# Altium footprint library myPcbLib1.PcbLib: 151 footprints (part 5 of 10)
Each footprint in its own frame and in the unit in brackets; x right, y up, seen from the top. Pads: shape width x height; smd on the part's side, far side on the other; paste and mask are expansions set on the pad; w line width, h text height; cw(c..) or ccw(c..) is an arc to the next point about the centre after c.
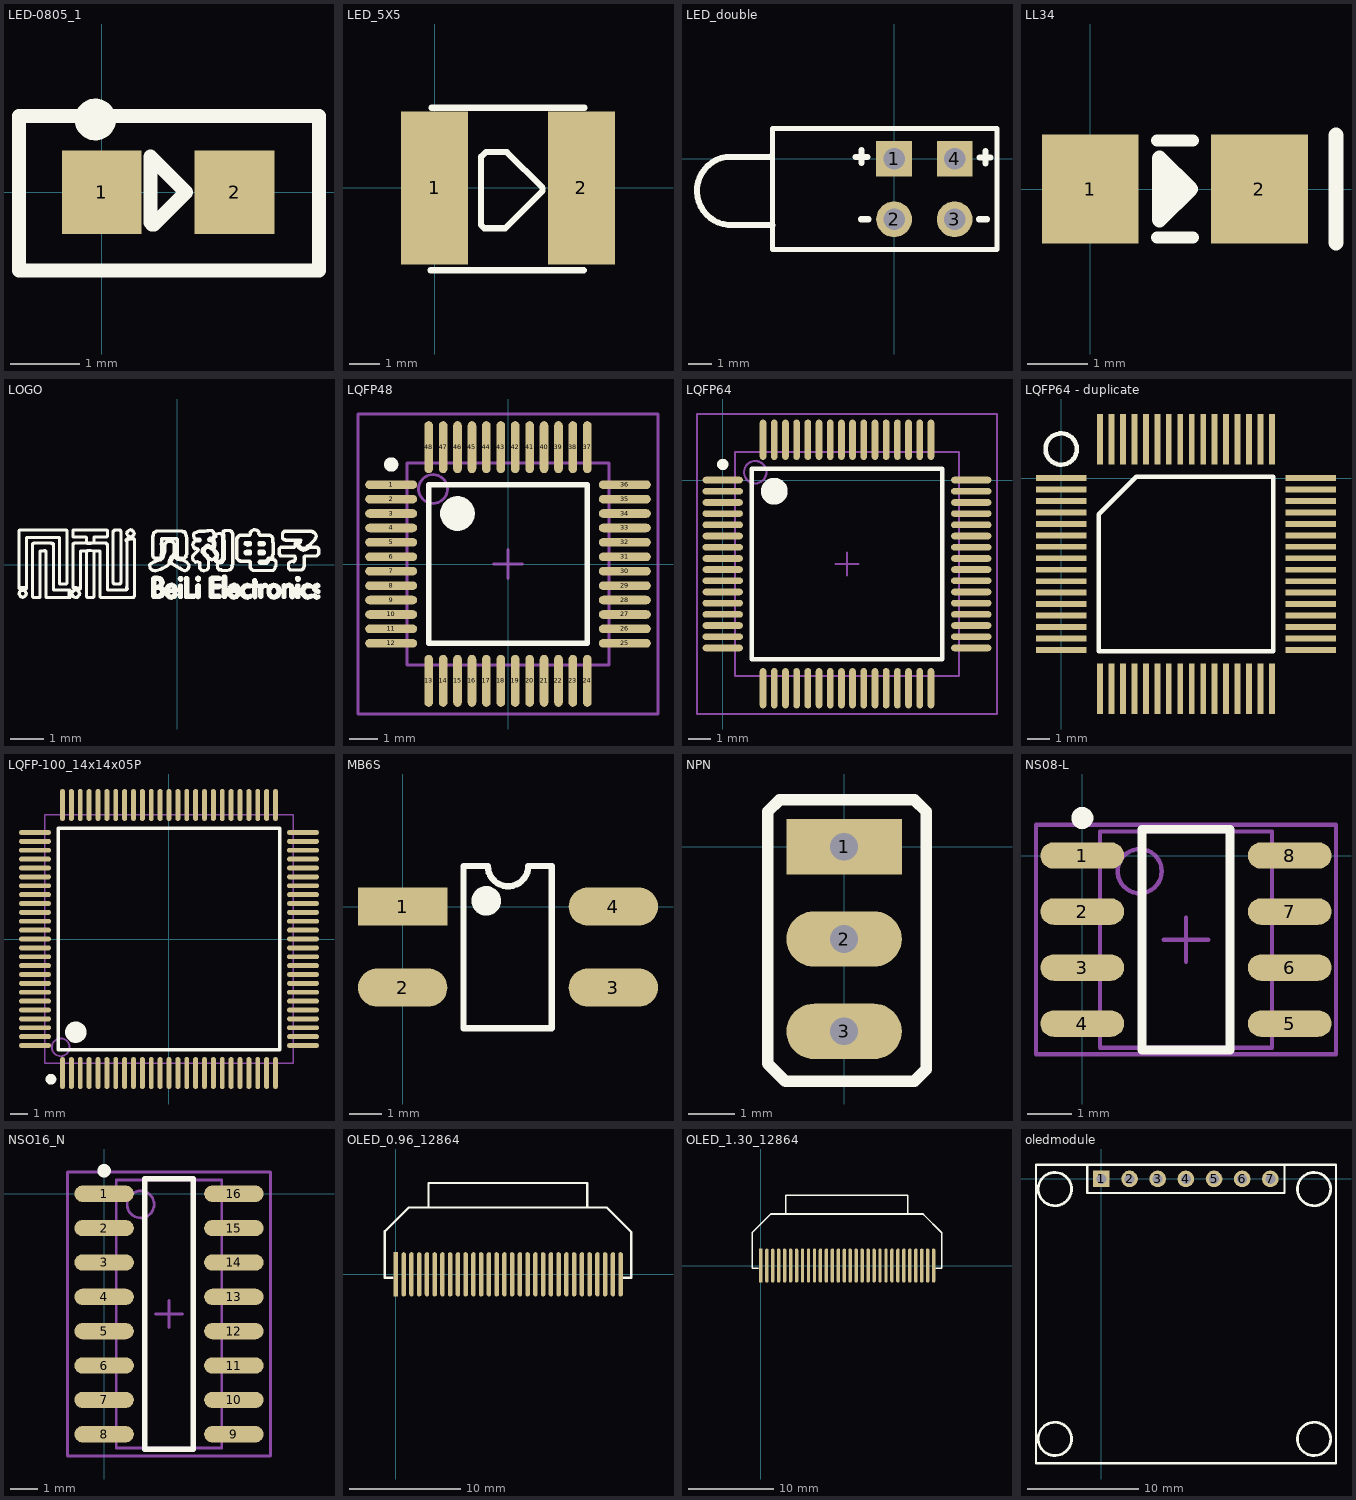
[diagram p4: the footprints below, top view; thin cyan lines are the x and y axes]

## LED-0805_1 [mm]
pads (2):
  rect 1.14x1.2 smd: 1(0,0) 2(1.9,0)
Top Overlay:
  circle w0.254: c-0.091,1.041 r0.17
  lines w0.2: -1.184,-1.118 -1.184,0.27 -1.184,1.092 3.109,1.092 3.109,-1.118 -1.184,-1.118
  lines w0.203: 0.696,-0.432 0.696,0.508 1.204,0 0.747,-0.457 0.721,-0.457 0.696,-0.432

## LED_5X5 [mm]
pads (2):
  rect 2.2x5 smd: 1(0,0) 2(4.801,0)
Top Overlay:
  lines w0.2: -0.127,-2.692 4.877,-2.692 ; -0.102,2.616 4.902,2.616 ; 1.524,-1.219 1.626,-1.321 1.753,-1.321 2.311,-1.321 3.531,-0.102 3.531,0 2.362,1.168 1.905,1.168 1.676,1.168 1.524,1.016 1.524,-1.219

## LED_double [mm]
pads (4):
  rect 1.5x1.5 hole 0.9: 1(0,0) 4(2.54,0)
  round 1.5 hole 0.9: 2(0,-2.54) 3(2.54,-2.54)
Top Overlay:
  lines w0.2: 0.635,1.27 4.318,1.27 4.318,-3.81 -5.105,-3.81 -5.105,1.27 1.905,1.27
  lines w0.254: -5.156,0.102 cw(c-5.218,0.163) -5.218,0.076 -7.061,0.076 ccw(c-6.833,-1.346) -6.965,-2.781 -5.137,-2.781 cw(c-5.137,-2.826) -5.105,-2.794 ; -1.626,0.076 -1.118,0.076 ; -1.397,-2.54 -1.067,-2.54 ; -1.372,-0.167 -1.372,0.356 ; 3.556,-2.54 3.901,-2.54 ; 3.581,0.051 4.039,0.051 ; 3.835,-0.203 3.835,0.33

## LL34 [mm]
pads (2):
  rect 1.6x1.8 smd: 1(0,0) 2(2.8,0)
Top Overlay:
  lines w0.2: 1.1,-0.8 1.7,-0.8 ; 1.1,0.8 1.7,0.8
  lines w0.254: 1.39,0.264 1.39,-0.01 1.146,-0.254 1.146,0.508 ; 4.067,-0.889 4.067,0.889 ; 1.146,0.508 1.146,-0.508 1.654,0 1.146,0.508

## LOGO [mm]
Top Overlay:
  drawing of 1860 lines, arcs and shapes, not listed

## LQFP48 [mm]
pads (48):
  oval 1.8x0.3 smd: 1(-4.05,2.75) 2(-4.05,2.25) 3(-4.05,1.75) 4(-4.05,1.25) 5(-4.05,0.75) 6(-4.05,0.25) 7(-4.05,-0.25) 8(-4.05,-0.75) 9(-4.05,-1.25) 10(-4.05,-1.75) 11(-4.05,-2.25) 12(-4.05,-2.75) 25(4.05,-2.75) 26(4.05,-2.25) 27(4.05,-1.75) 28(4.05,-1.25) 29(4.05,-0.75) 30(4.05,-0.25) 31(4.05,0.25) 32(4.05,0.75) 33(4.05,1.25) 34(4.05,1.75) 35(4.05,2.25) 36(4.05,2.75)
  oval 0.3x1.8 smd: 13(-2.75,-4.05) 14(-2.25,-4.05) 15(-1.75,-4.05) 16(-1.25,-4.05) 17(-0.75,-4.05) 18(-0.25,-4.05) 19(0.25,-4.05) 20(0.75,-4.05) 21(1.25,-4.05) 22(1.75,-4.05) 23(2.25,-4.05) 24(2.75,-4.05) 37(2.75,4.05) 38(2.25,4.05) 39(1.75,4.05) 40(1.25,4.05) 41(0.75,4.05) 42(0.25,4.05) 43(-0.25,4.05) 44(-0.75,4.05) 45(-1.25,4.05) 46(-1.75,4.05) 47(-2.25,4.05) 48(-2.75,4.05)
Top Overlay:
  circle w0.25: c-4.05,3.45 r0.125
  circle w0.6: c-1.75,1.75 r0.3
  lines w0.2: -2.75,-2.75 -2.75,2.75 2.75,2.75 2.75,-2.75 -2.75,-2.75
Mechanical 13:
  circle w0.1: c-2.6,2.6 r0.5
  lines w0.1: -3.5,-3.5 -3.5,3.5 3.5,3.5 3.5,-3.5 -3.5,-3.5
Mechanical 15:
  lines w0.1: -0.5,0 0.5,0 ; 0,-0.5 0,0.5 ; -5.2,-5.2 -5.2,5.2 5.2,5.2 5.2,-5.2 -5.2,-5.2
3D body: height 1.6, standoff 0, extent -3.5,-3.5 3.5,3.5

## LQFP64 [mm] "Thin QFP, 64-Leads, Body 10x10mm, Pitch 0.5mm, IPC Medium Density"
pads (64):
  oval 1.8x0.3 smd: 1(0,0) 2(0,-0.5) 3(0,-1) 4(0,-1.5) 5(0,-2) 6(0,-2.5) 7(0,-3) 8(0,-3.5) 9(0,-4) 10(0,-4.5) 11(0,-5) 12(0,-5.5) 13(0,-6) 14(0,-6.5) 15(0,-7) 16(0,-7.5) 33(11.1,-7.5) 34(11.1,-7) 35(11.1,-6.5) 36(11.1,-6) 37(11.1,-5.5) 38(11.1,-5) 39(11.1,-4.5) 40(11.1,-4) 41(11.1,-3.5) 42(11.1,-3) 43(11.1,-2.5) 44(11.1,-2) 45(11.1,-1.5) 46(11.1,-1) 47(11.1,-0.5) 48(11.1,0)
  oval 0.3x1.8 smd: 17(1.8,-9.3) 18(2.3,-9.3) 19(2.8,-9.3) 20(3.3,-9.3) 21(3.8,-9.3) 22(4.3,-9.3) 23(4.8,-9.3) 24(5.3,-9.3) 25(5.8,-9.3) 26(6.3,-9.3) 27(6.8,-9.3) 28(7.3,-9.3) 29(7.8,-9.3) 30(8.3,-9.3) 31(8.8,-9.3) 32(9.3,-9.3) 49(9.3,1.8) 50(8.8,1.8) 51(8.3,1.8) 52(7.8,1.8) 53(7.3,1.8) 54(6.8,1.8) 55(6.3,1.8) 56(5.8,1.8) 57(5.3,1.8) 58(4.8,1.8) 59(4.3,1.8) 60(3.8,1.8) 61(3.3,1.8) 62(2.8,1.8) 63(2.3,1.8) 64(1.8,1.8)
Top Overlay:
  circle w0.6: c2.3,-0.5 r0.3
  circle w0.25: c0,0.7 r0.125
  lines w0.2: 1.3,-8 9.8,-8 9.8,0.5 1.3,0.5 1.3,-8
Mechanical 13:
  circle w0.1: c1.45,0.35 r0.5
  lines w0.1: 0.55,-8.75 10.55,-8.75 10.55,1.25 0.55,1.25 0.55,-8.75
Mechanical 15:
  lines w0.1: 5.05,-3.75 6.05,-3.75 ; 5.55,-4.25 5.55,-3.25 ; -1.15,-10.45 12.25,-10.45 12.25,2.95 -1.15,2.95 -1.15,-10.45
3D body: height 1.6, standoff 0, extent 0.55,-8.75 10.55,1.25

## LQFP64 - duplicate [mm] "LQFP64"
pads (64):
  rect 2.2x0.254 smd: 1(0,0) 2(0,-0.5) 3(0,-1) 4(0,-1.5) 5(0,-2) 6(0,-2.5) 7(0,-3) 8(0,-3.5) 9(0,-4) 10(0,-4.5) 11(0,-5) 12(0,-5.5) 13(0,-6) 14(0,-6.5) 15(0,-7) 16(0,-7.5) 33(10.9,-7.5) 34(10.9,-7) 35(10.9,-6.5) 36(10.9,-6) 37(10.9,-5.5) 38(10.9,-5) 39(10.9,-4.5) 40(10.9,-4) 41(10.9,-3.5) 42(10.9,-3) 43(10.9,-2.5) 44(10.9,-2) 45(10.9,-1.5) 46(10.9,-1) 47(10.9,-0.5) 48(10.9,0)
  rect 0.254x2.2 smd: 17(1.7,-9.2) 18(2.2,-9.2) 19(2.7,-9.2) 20(3.2,-9.2) 21(3.7,-9.2) 22(4.2,-9.2) 23(4.7,-9.2) 24(5.2,-9.2) 25(5.7,-9.2) 26(6.2,-9.2) 27(6.7,-9.2) 28(7.2,-9.2) 29(7.7,-9.2) 30(8.2,-9.2) 31(8.7,-9.2) 32(9.2,-9.2) 49(9.2,1.7) 50(8.7,1.7) 51(8.2,1.7) 52(7.7,1.7) 53(7.2,1.7) 54(6.7,1.7) 55(6.2,1.7) 56(5.7,1.7) 57(5.2,1.7) 58(4.7,1.7) 59(4.2,1.7) 60(3.7,1.7) 61(3.2,1.7) 62(2.7,1.7) 63(2.2,1.7) 64(1.7,1.7)
Top Overlay:
  circle w0.2: c0,1.27 r0.684
  lines w0.2: 1.635,-7.565 9.265,-7.565 9.265,0.065 3.27,0.065 1.635,-1.57 1.635,-7.565

## LQFP-100_14x14x05P [mm]
pads (100):
  oval 0.28x1.8 smd mask+0.051: 1(-6,-7.55) 2(-5.5,-7.55) 3(-5,-7.55) 4(-4.5,-7.55) 5(-4,-7.55) 6(-3.5,-7.55) 7(-3,-7.55) 8(-2.5,-7.55) 9(-2,-7.55) 10(-1.5,-7.55) 11(-1,-7.55) 12(-0.5,-7.55) 13(0,-7.55) 14(0.5,-7.55) 15(1,-7.55) 16(1.5,-7.55) 17(2,-7.55) 18(2.5,-7.55) 19(3,-7.55) 20(3.5,-7.55) 21(4,-7.55) 22(4.5,-7.55) 23(5,-7.55) 24(5.5,-7.55) 25(6,-7.55) 51(6,7.55) 52(5.5,7.55) 53(5,7.55) 54(4.5,7.55) 55(4,7.55) 56(3.5,7.55) 57(3,7.55) 58(2.5,7.55) 59(2,7.55) 60(1.5,7.55) 61(1,7.55) 62(0.5,7.55) 63(0,7.55) 64(-0.5,7.55) 65(-1,7.55) 66(-1.5,7.55) 67(-2,7.55) 68(-2.5,7.55) 69(-3,7.55) 70(-3.5,7.55) 71(-4,7.55) 72(-4.5,7.55) 73(-5,7.55) 74(-5.5,7.55) 75(-6,7.55)
  oval 1.8x0.28 smd mask+0.051: 26(7.55,-6) 27(7.55,-5.5) 28(7.55,-5) 29(7.55,-4.5) 30(7.55,-4) 31(7.55,-3.5) 32(7.55,-3) 33(7.55,-2.5) 34(7.55,-2) 35(7.55,-1.5) 36(7.55,-1) 37(7.55,-0.5) 38(7.55,0) 39(7.55,0.5) 40(7.55,1) 41(7.55,1.5) 42(7.55,2) 43(7.55,2.5) 44(7.55,3) 45(7.55,3.5) 46(7.55,4) 47(7.55,4.5) 48(7.55,5) 49(7.55,5.5) 50(7.55,6) 76(-7.55,6) 77(-7.55,5.5) 78(-7.55,5) 79(-7.55,4.5) 80(-7.55,4) 81(-7.55,3.5) 82(-7.55,3) 83(-7.55,2.5) 84(-7.55,2) 85(-7.55,1.5) 86(-7.55,1) 87(-7.55,0.5) 88(-7.55,0) 89(-7.55,-0.5) 90(-7.55,-1) 91(-7.55,-1.5) 92(-7.55,-2) 93(-7.55,-2.5) 94(-7.55,-3) 95(-7.55,-3.5) 96(-7.55,-4) 97(-7.55,-4.5) 98(-7.55,-5) 99(-7.55,-5.5) 100(-7.55,-6)
Top Overlay:
  circle w0.6: c-5.25,-5.25 r0.3
  circle w0.3: c-6.65,-7.9 r0.15
  lines w0.2: -6.25,-6.25 -6.25,6.25 6.25,6.25 6.25,-6.25 -6.25,-6.25
Mechanical 13:
  circle w0.1: c-6.1,-6.1 r0.5
  lines w0.1: -7,-7 -7,7 7,7 7,-7 -7,-7

## MB6S [mm]
pads (4):
  rect 2.8x1.2 smd: 1(0,0)
  oval 2.8x1.2 smd: 2(0,-2.54) 3(6.6,-2.54) 4(6.6,0)
Top Overlay:
  circle w0.6: c2.616,0.178 r0.163
  lines w0.2: 2.665,1.27 1.905,1.27 1.905,-3.81 4.674,-3.81 4.674,1.27 3.935,1.27 ; 2.667,1.27 ccw(c3.302,1.27) 3.937,1.27

## NPN [mm]
pads (3):
  rect 2.5x1.2 hole 0.6: 1(0,0)
  oval 2.5x1.2 hole 0.6: 2(0,-2) 3(0,-4)
Top Overlay:
  lines w0.254: -1.651,-4.699 -1.27,-5.08 1.27,-5.08 1.524,-5.08 1.778,-4.826 1.778,-4.572 1.778,0.762 1.524,1.016 -1.397,1.016 -1.651,0.762 -1.651,-4.699

## NS08-L [mm] "SOIC, 8-Leads, Body 4.9x3.9mm, Pitch 1.27mm, IPC High Density"
pads (8):
  oval 1.9x0.6 smd: 1(0,0) 2(0,-1.27) 3(0,-2.54) 4(0,-3.81) 5(4.7,-3.81) 6(4.7,-2.54) 7(4.7,-1.27) 8(4.7,0)
Top Overlay:
  circle w0.25: c0,0.85 r0.125
  lines w0.2: 1.35,-4.405 1.35,0.595 3.35,0.595 3.35,-4.405 1.35,-4.405
Mechanical 13:
  circle w0.1: c1.3,-0.355 r0.5
  lines w0.1: 0.4,-4.355 0.4,0.545 4.3,0.545 4.3,-4.355 0.4,-4.355
Mechanical 15:
  lines w0.1: 1.85,-1.905 2.85,-1.905 ; 2.35,-2.405 2.35,-1.405 ; -1.05,-4.505 -1.05,0.695 5.75,0.695 5.75,-4.505 -1.05,-4.505
3D body: height 1.75, standoff 0, extent 0.4,-4.355 4.3,0.545

## NSO16_N [mm]
pads (16):
  oval 2.2x0.6 smd: 1(0,0) 2(0,-1.27) 3(0,-2.54) 4(0,-3.81) 5(0,-5.08) 6(0,-6.35) 7(0,-7.62) 8(0,-8.89) 9(4.8,-8.89) 10(4.8,-7.62) 11(4.8,-6.35) 12(4.8,-5.08) 13(4.8,-3.81) 14(4.8,-2.54) 15(4.8,-1.27) 16(4.8,0)
Top Overlay:
  circle w0.25: c0,0.85 r0.125
  lines w0.2: 1.5,-9.445 1.5,0.555 3.3,0.555 3.3,-9.445 1.5,-9.445
Mechanical 13:
  circle w0.1: c1.35,-0.395 r0.5
  lines w0.1: 0.45,-9.395 0.45,0.505 4.35,0.505 4.35,-9.395 0.45,-9.395
Mechanical 15:
  lines w0.1: 1.9,-4.445 2.9,-4.445 ; 2.4,-4.945 2.4,-3.945 ; -1.35,-9.695 -1.35,0.805 6.15,0.805 6.15,-9.695 -1.35,-9.695
3D body: height 1.75, standoff 0, extent 0.45,-9.395 4.35,0.505

## OLED_0.96_12864 [mm]
pads (30):
  rect 0.4x4 smd: 1(0,0)
  oval 0.4x4 smd: 2(0.7,0) 3(1.4,0) 4(2.1,0) 5(2.8,0) 6(3.5,0) 7(4.2,0) 8(4.9,0) 9(5.6,0) 10(6.3,0) 11(7,0) 12(7.7,0) 13(8.4,0) 14(9.1,0) 15(9.8,0) 16(10.5,0) 17(11.2,0) 18(11.9,0) 19(12.6,0) 20(13.3,0) 21(14,0) 22(14.7,0) 23(15.4,0) 24(16.1,0) 25(16.8,0) 26(17.5,0) 27(18.2,0) 28(18.9,0) 29(19.6,0) 30(20.3,0)
Top Overlay:
  lines w0.2: -0.305,-0.305 -1.016,-0.305 -1.016,3.835 -1.016,3.861 -1.016,3.886 -0.991,3.886 1.168,6.045 19.05,6.045 ; 2.946,6.096 2.946,8.255 17.272,8.255 17.272,6.782 17.272,6.071 ; 19.101,5.994 21.26,3.835 21.26,-0.305 20.549,-0.305
Bottom Overlay:
  lines w0.2: -3.429,-15.418 -3.429,3.861 23.673,3.861 23.673,-15.418 -3.429,-15.418

## OLED_1.30_12864 [mm]
pads (30):
  rect 0.4x4 smd: 1(0,0)
  oval 0.4x4 smd: 2(0.7,0) 3(1.4,0) 4(2.1,0) 5(2.8,0) 6(3.5,0) 7(4.2,0) 8(4.9,0) 9(5.6,0) 10(6.3,0) 11(7,0) 12(7.7,0) 13(8.4,0) 14(9.1,0) 15(9.8,0) 16(10.5,0) 17(11.2,0) 18(11.9,0) 19(12.6,0) 20(13.3,0) 21(14,0) 22(14.7,0) 23(15.4,0) 24(16.1,0) 25(16.8,0) 26(17.5,0) 27(18.2,0) 28(18.9,0) 29(19.6,0) 30(20.3,0)
Top Overlay:
  lines w0.2: -0.305,-0.305 -1.016,-0.305 -1.016,3.835 -1.016,3.861 -1.016,3.886 -0.991,3.886 1.168,6.045 19.05,6.045 ; 2.946,6.096 2.946,8.255 17.272,8.255 17.272,6.782 17.272,6.071 ; 19.101,5.994 21.26,3.835 21.26,-0.305 20.549,-0.305
Bottom Overlay:
  lines w0.2: 27.711,-19.634 -7.493,-19.634 -7.493,3.861 -3.429,3.861 23.673,3.861 27.737,3.861 27.737,-19.583 27.711,-19.609

## oledmodule [mm]
pads (7):
  rect 1.5x1.5 hole 0.9: 1(0,0)
  round 1.5 hole 0.9: 2(2.54,0) 3(5.08,0) 4(7.62,0) 5(10.16,0) 6(12.7,0) 7(15.24,0)
Top Overlay:
  circle w0.254: c-4.191,-23.444 r1.5
  circle w0.254: c19.177,-23.444 r1.5
  circle w0.254: c19.177,-0.914 r1.5
  circle w0.254: c-4.191,-0.914 r1.5
  lines w0.2: 16.535,1.27 -1.27,1.27 ; -1.27,1.27 -5.893,1.27 -5.893,-25.629 21.158,-25.629 21.158,1.27 16.51,1.27 16.51,-1.27 -1.27,-1.27 -1.27,1.27